# Altium footprint library MyLib.PcbLib: 20 footprints (part 2 of 2)
Each footprint in its own frame and in the unit in brackets; x right, y up, seen from the top. Pads: shape width x height; smd on the part's side, far side on the other; paste and mask are expansions set on the pad; w line width, h text height; cw(c..) or ccw(c..) is an arc to the next point about the centre after c.
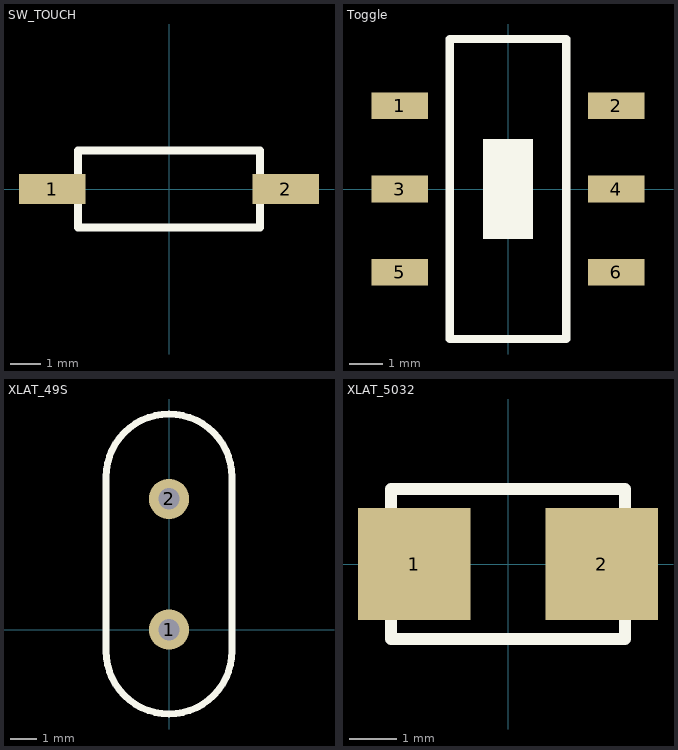
[diagram p1: the footprints below, top view; thin cyan lines are the x and y axes]

## SW_TOUCH [mm]
pads (2):
  rect 2.2x1 smd: 1(-3.85,0) 2(3.85,0)
Top Overlay:
  lines w0.254: -3,-1.27 3,-1.27 3,1.27 -3,1.27 -3,-1.27

## Toggle [mm] "贴片型拨动开关"
pads (6):
  rect 1.7x0.8 smd: 1(-3.25,2.5) 2(3.25,2.5) 3(-3.25,0) 4(3.25,0) 5(-3.25,-2.5) 6(3.25,-2.5)
Top Overlay:
  rectangle: -0.75,-1.5 0.75,1.5
  lines w0.254: -1.75,-4.5 -1.75,4.5 1.75,4.5 1.75,-4.5 -1.75,-4.5

## XLAT_49S [mm]
pads (2):
  round 1.5 hole 0.8: 1(0,0) 2(0,4.88)
Top Overlay:
  lines w0.254: -2.35,-0.8 ccw(c0,-0.8) 2.35,-0.8 2.35,5.7 ccw(c0,5.7) -2.35,5.7 -2.35,-0.8

## XLAT_5032 [mm]
height 1.2
pads (2):
  rect 2.4x2.4 smd: 1(-2,0) 2(2,0)
Top Overlay:
  lines w0.254: -2.5,-1.6 2.5,-1.6 2.5,1.6 -2.5,1.6 -2.5,-1.6